# Altium footprint library 2009_01_27_Thomas_Schmid_Epic_Plus.PcbLib: 17 footprints (part 2 of 2)
Each footprint in its own frame and in the unit in brackets; x right, y up, seen from the top. Pads: shape width x height; smd on the part's side, far side on the other; paste and mask are expansions set on the pad; w line width, h text height; cw(c..) or ccw(c..) is an arc to the next point about the centre after c.
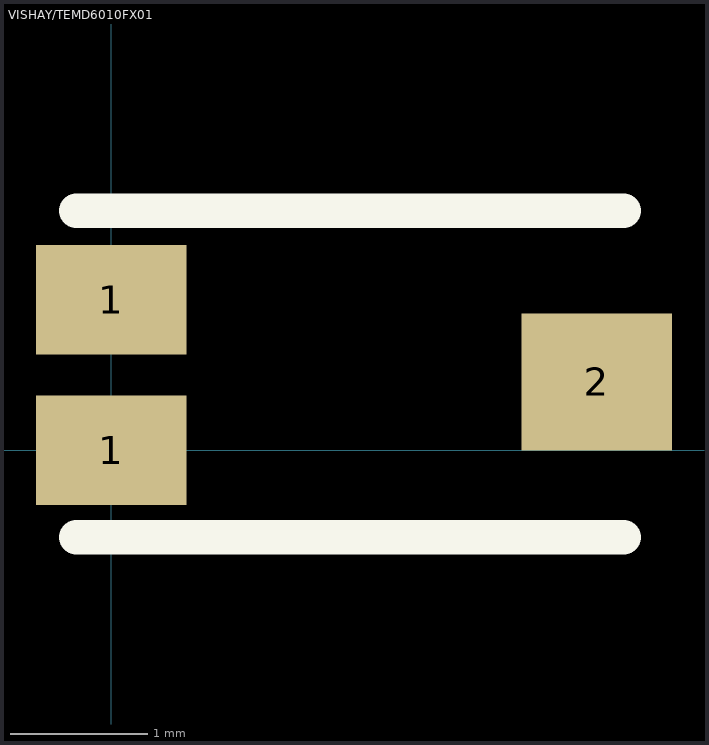
[diagram p1: the footprint, top view; thin cyan lines are the x and y axes]

## VISHAY/TEMD6010FX01 [mm] "Ambient Light Sensor"
height 1.05
pads (3):
  rect 1.1x0.8 smd: 1(0,0) 1(0,1.1)
  rect 1.1x1 smd: 2(3.55,0.5)
Top Overlay:
  lines w0.254: -0.254,-0.635 3.746,-0.635 ; -0.254,1.75 3.746,1.75